# Altium schematic symbol library SchematicLibrary.SchLib: 11 symbols
Pins are listed as number, name and electrical type; pins without a type are passive.

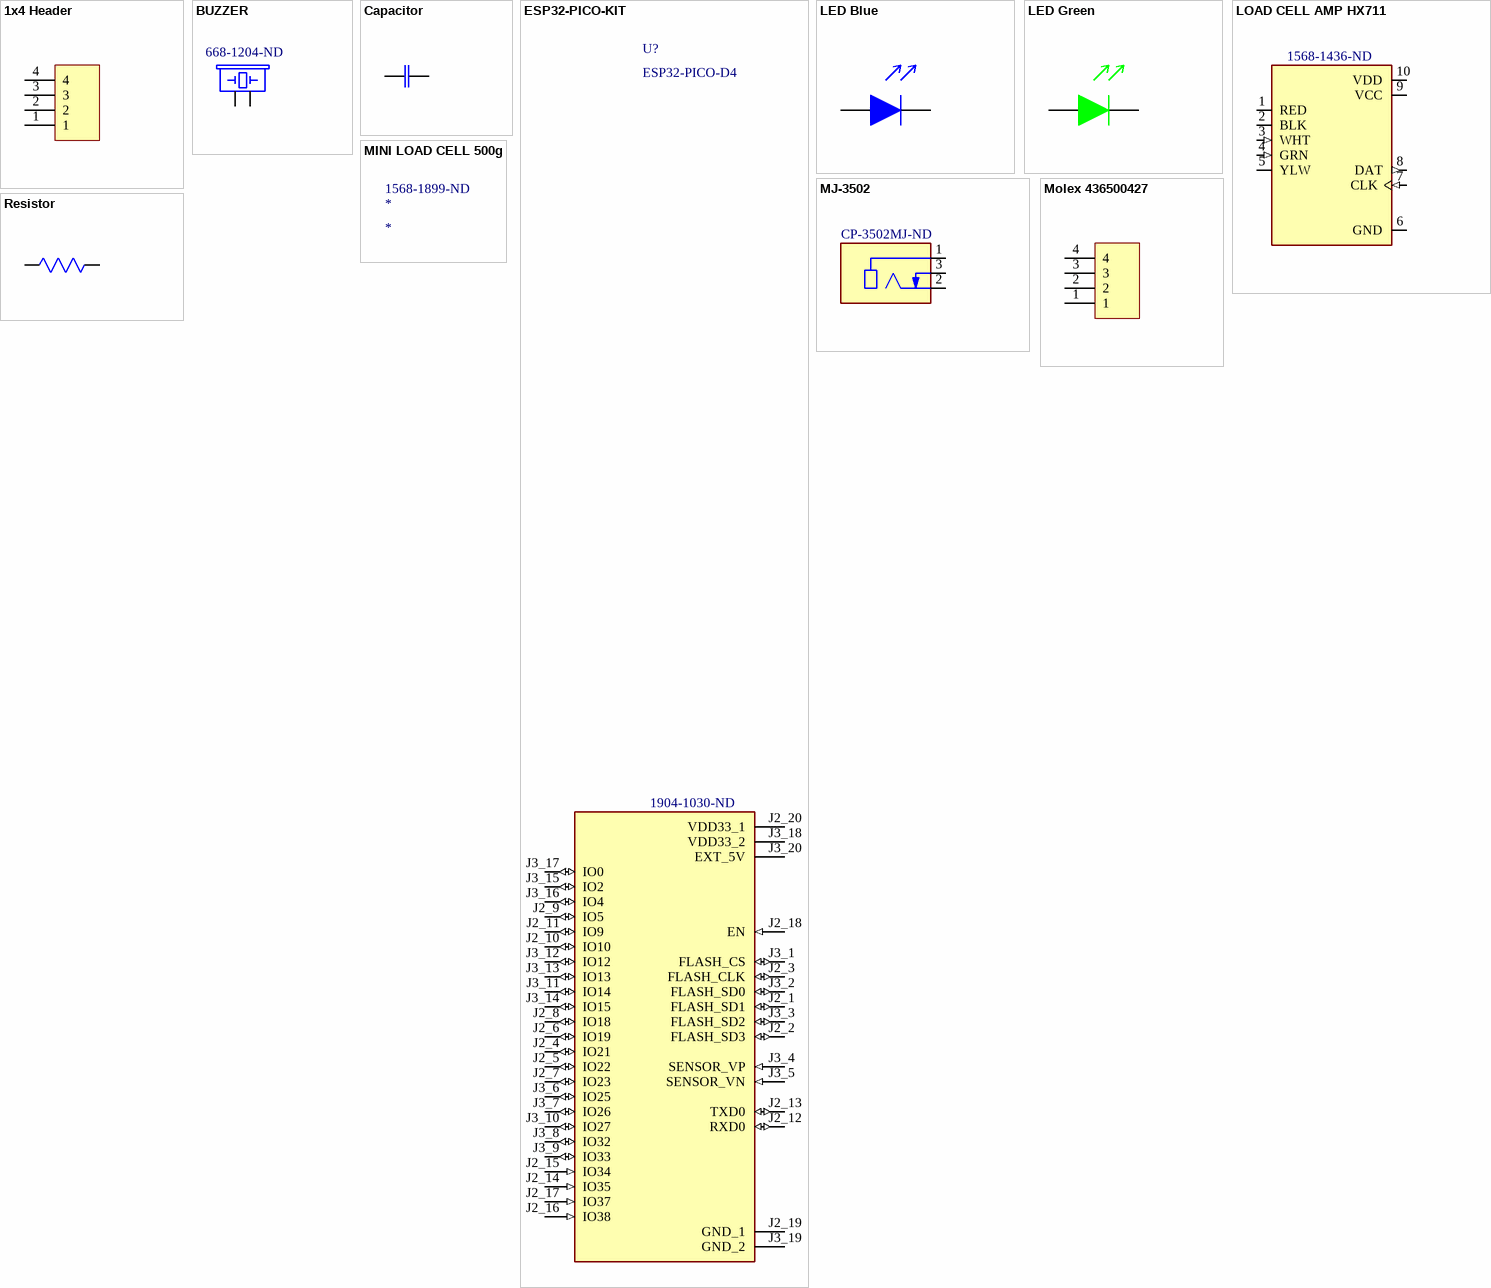
[diagram p0: symbols 1x4 Header to Resistor]

## 1x4 Header
designator J?
Standard 0.1" Header 1x4
footprint 1x4 Standard Header
pins: 1, 2, 3, 4

## BUZZER
designator BZ?, comment Piezo Buzzer  Supplier Part Number 1: 668-1204-ND
Audio Indicator Piezo 2VDC 5VDC 9mA 3VDC 100dBAdBA 3000Hz to 4000Hz Through Hole Pin; Manufacturer: Projects Unlimited; Manufacturer Part Number: AI-3035-TWT-3V-R; Nominal Supply Voltage (DC): 3V; Frequency: 3.5kHz; Max Supply Voltage (DC): 5V; Min Supply Voltage (DC): 2V; Input Type: DC; Washable: Yes; Supplier 1: Digi-Key; RoHS: Yes; Category: Audio Products; Stock 1: 14193; Pricing 1: 1=2.78000, 10=2.30300, 25=2.12600, 50=1.99760, 100=1.87400, 450=1.60551, 950=1.58793 (USD); Mount: Through Hole; Contact Plating: Tin; Min Operating Temperature: -20°C; Max Operating Temperature: 80°C; Package Quantity: 50; Packaging: Tray; Voltage Rating (DC): 3V; Current Rating: 9mA; Operating Supply Current: 9mA; Termination: PC Pins; Max Supply Current: 9mA; Series: AI; Diameter: 30mm; Length: 30mm; Width: 30mm; Height: 20.5mm; ComponentLink1URL: https://datasheet.ciiva.com/8113/ai-3035-twt-3v-r-8113514.pdf?src-supplier=Avnet; ComponentLink1Description: https://datasheet.ciiva.com/8113/ai-3035-twt-3v-r-8113514.pdf?src-supplier=Avnet; ComponentLink2URL: https://datasheet.ciiva.com/4623/ai-3035-twt-3v-r-63144-4623167.pdf?src-supplier=Mouser; ComponentLink2Description: https://datasheet.ciiva.com/4623/ai-3035-twt-3v-r-63144-4623167.pdf?src-supplier=Mouser; ComponentLink3URL: https://datasheet.ciiva.com/0/ai-3035-twt-3v-r-348.pdf?src-supplier=Digi-Key; ComponentLink3Description: https://datasheet.ciiva.com/0/ai-3035-twt-3v-r-348.pdf?src-supplier=Digi-Key
footprint AI-3035-TWT-3V-R
pins: P$2 1, P$3 2

## Capacitor
designator C?, comment 0.33uF
Standard Capacitor, Through Hole; Supplier 1: Newark; Supplier Part Number 1: 74X9713
footprint TH CAPACITOR
pins: 1, 2

## ESP32-PICO-KIT
designator U?, comment ESP32-PICO-D4  Supplier Part Number 1: 1904-1030-ND
ESP32 Wifi Bluetooth Eval Board; Manufacturer: Espressif Systems; Manufacturer Part Number: ESP32-PICO-KIT; Frequency: 2.4GHz; Supplier 1: Digi-Key; RoHS: No; Category: RF Semiconductors and Devices; Stock 1: 467; Pricing 1: 1=10.00000 (USD); ComponentLink1URL: https://esp-idf.readthedocs.io/en/latest/get-started/get-started-pico-kit.html?src-supplier=Digi-Key; ComponentLink1Description: https://esp-idf.readthedocs.io/en/latest/get-started/get-started-pico-kit.html?src-supplier=Digi-Key
footprint ESP32-PICO-KIT (Standard Microcontroller)
pins: J2_1 FLASH_SD1 (io), J2_2 FLASH_SD3 (io), J2_3 FLASH_CLK (io), J2_4 IO21 (io), J2_5 IO22 (io), J2_6 IO19 (io), J2_7 IO23 (io), J2_8 IO18 (io), J2_9 IO5 (io), J2_10 IO10 (io), J2_11 IO9 (io), J2_12 RXD0 (io), J2_13 TXD0 (io), J2_14 IO35 (in), J2_15 IO34 (in), J2_16 IO38 (in), J2_17 IO37 (in), J2_18 EN (in), J2_19 GND_1 (power), J2_20 VDD33_1 (power), J3_1 FLASH_CS (io), J3_2 FLASH_SD0 (io), J3_3 FLASH_SD2 (io), J3_4 SENSOR_VP (in), J3_5 SENSOR_VN (in), J3_6 IO25 (io), J3_7 IO26 (io), J3_8 IO32 (io), J3_9 IO33 (io), J3_10 IO27 (io), J3_11 IO14 (io), J3_12 IO12 (io), J3_13 IO13 (io), J3_14 IO15 (io), J3_15 IO2 (io), J3_16 IO4 (io), J3_17 IO0 (io), J3_18 VDD33_2 (power), J3_19 GND_2 (power), J3_20 EXT_5V (power)

## LED Blue
designator D?, comment LED
2V Blue LED Through Hole
footprint LED TH BLUE (Standard 5mm Through Hole LED)
pins: 1, 2

## LED Green
designator D?, comment LED
2V Green LED Through Hole
footprint LED TH GREEN (Standard 5mm Through Hole LED)
pins: 1, 2

## LOAD CELL AMP HX711
designator U?  Supplier Part Number 1: 1568-1436-ND
HX711 Load Cell Amplifier; Manufacturer: SparkFun; Manufacturer Part Number: SEN-13879; Output Type: Digital; Operating Supply Current: 1.5mA; Supplier 1: Digi-Key; RoHS: No; Stock 1: 1086; Pricing 1: 1=10.95000 (USD); Min Operating Temperature: -45°C; Max Operating Temperature: 85°C
footprint SEN-13879 (Load Cell Amplifier)
pins: 1 RED (io), 2 BLK (io), 3 WHT (in), 4 GRN (in), 5 YLW (io), 6 GND (power), 7 CLK (in), 8 DAT (out), 9 VCC (power), 10 VDD (power)

## MINI LOAD CELL 500g
designator *  Supplier Part Number 1: 1568-1899-ND
Load Cell Module 500g Force; Manufacturer: SparkFun; Manufacturer Part Number: SEN-14728; Supplier 1: Digi-Key; RoHS: No; Stock 1: 94; Pricing 1: 1=12.50000 (USD); Min Operating Temperature: -10°C; Max Operating Temperature: 40°C; ComponentLink1URL: https://cdn.sparkfun.com/assets/9/9/a/f/3/TAL221.pdf?src-supplier=Digi-Key; ComponentLink1Description: https://cdn.sparkfun.com/assets/9/9/a/f/3/TAL221.pdf?src-supplier=Digi-Key
footprint NET_TIE-12 (12mil patch for net tie.)

## MJ-3502
designator J?  Supplier Part Number 1: CP-3502MJ-ND
3.5 mm, Mono, Right Angle, Through Hole, Threaded Bushing, Audio Jack Connector; Manufacturer: CUI; Manufacturer Part Number: MJ-3502; Body Material: Brass; Body Color: Black; Gender: Female; Shielding: Unshielded; Current Rating: 1A; Number of Conductors: 2; Number of Ports: 1; Supplier 1: Digi-Key; RoHS: Yes; Category: Uncategorized; Mount: Through Hole,Panel; Color: Black; Contact Plating: Silver; Series: -; Packaging: Bulk; Termination: Solder; Orientation: Horizontal; Connector Type: Jack; Diameter: 3.5mm; Lead Free: Lead Free; ComponentLink1URL: https://www.cui.com/product/resource/digikeypdf/mj-3502.pdf?src-supplier=Digi-Key; ComponentLink1Description: https://www.cui.com/product/resource/digikeypdf/mj-3502.pdf?src-supplier=Digi-Key
footprint MJ-3502N (3.5mm Mono Jack RA)
pins: 1, 2, 3

## Molex 436500427
designator J?
Molex MicroFit 3.0 Header 1x4, mates with 0436450400
footprint MOLEX_436500427
pins: 1, 2, 3, 4

## Resistor
designator R?, comment 220 Ohms
Standard Resistor, Through Hole, 1/8W
footprint TH Resistor
pins: 1 R1, 2 R2